# EAGLE library part 750311525 (library Wurth Electronics Midcom Inc V1-0)
Package Style: Speedy EE13/6/6 20W THT Mounting: THT Pins: 10 pins Bobbin: 070-2863 Windings Primary: Aux: Secondary: Best pinouts for production vary per application. Please contact Wurth Electronics Midcom, Inc. for assistance with your custom design. Datasheet: 750311525 <http://www.we-online.com/web/en/index.php/show/media/passive_components_-_custom_magnetics/pdf_doc_files/spec_sheets/7503/750311525.pdf> Website: Wurth Electronics Midcom <http://www.we-online.com/midcom> Contact us Wurth Electronics Midcom, Inc. 121 Airport Dr. Watertown, SD 57201 Phone: (605) 886-4385 Fax: (605) 886-4486 E-Mail: midcom@we-online.com
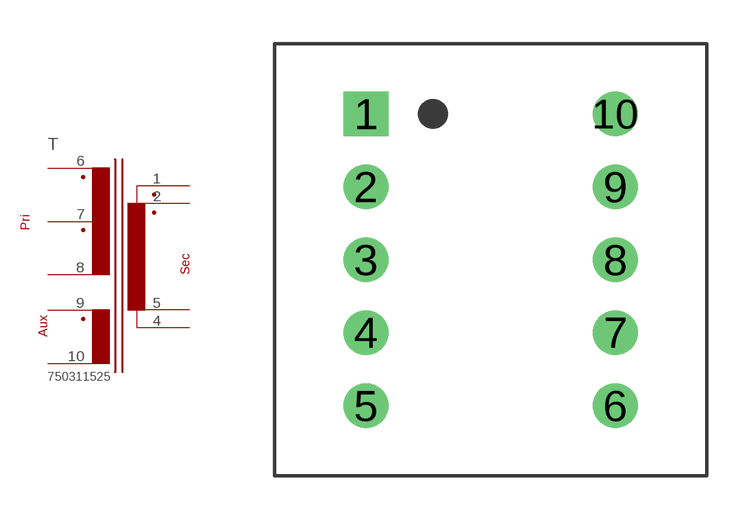
[diagram p63: symbol with the pads of 00SPEEDY_EE13/6/6_THT_V_10PIN; footprint 00SPEEDY_EE13/6/6_THT_V_10PIN]

Designator prefix T

## 750311525  [00SPEEDY_EE13/6/6_THT_V_10PIN]
1  7  pas
2  9  pas
4  8  pas
5  10  pas
6  1  pas
7  2  pas
8  3  pas
9  4  pas
10  5  pas

## Footprint 00SPEEDY_EE13/6/6_THT_V_10PIN (pad centres in mm)
Package Style: Speedy EE13/6/6 Mounting: THT Pins: 10 pins Bobbin: 070-2863
drill 1.016 square: 1 -4.255,4.978
drill 1.016 round: 2 -4.255,2.489; 3 -4.255,0; 4 -4.255,-2.489; 5 -4.255,-4.978; 6 4.255,-4.978; 7 4.255,-2.489; 8 4.255,0; 9 4.255,2.489; 10 4.255,4.978